# Altium footprint library Connector_Audio.PcbLib: 212 footprints (part 4 of 14)
Each footprint in its own frame and in the unit in brackets; x right, y up, seen from the top. Pads: shape width x height; smd on the part's side, far side on the other; paste and mask are expansions set on the pad; w line width, h text height; cw(c..) or ccw(c..) is an arc to the next point about the centre after c.
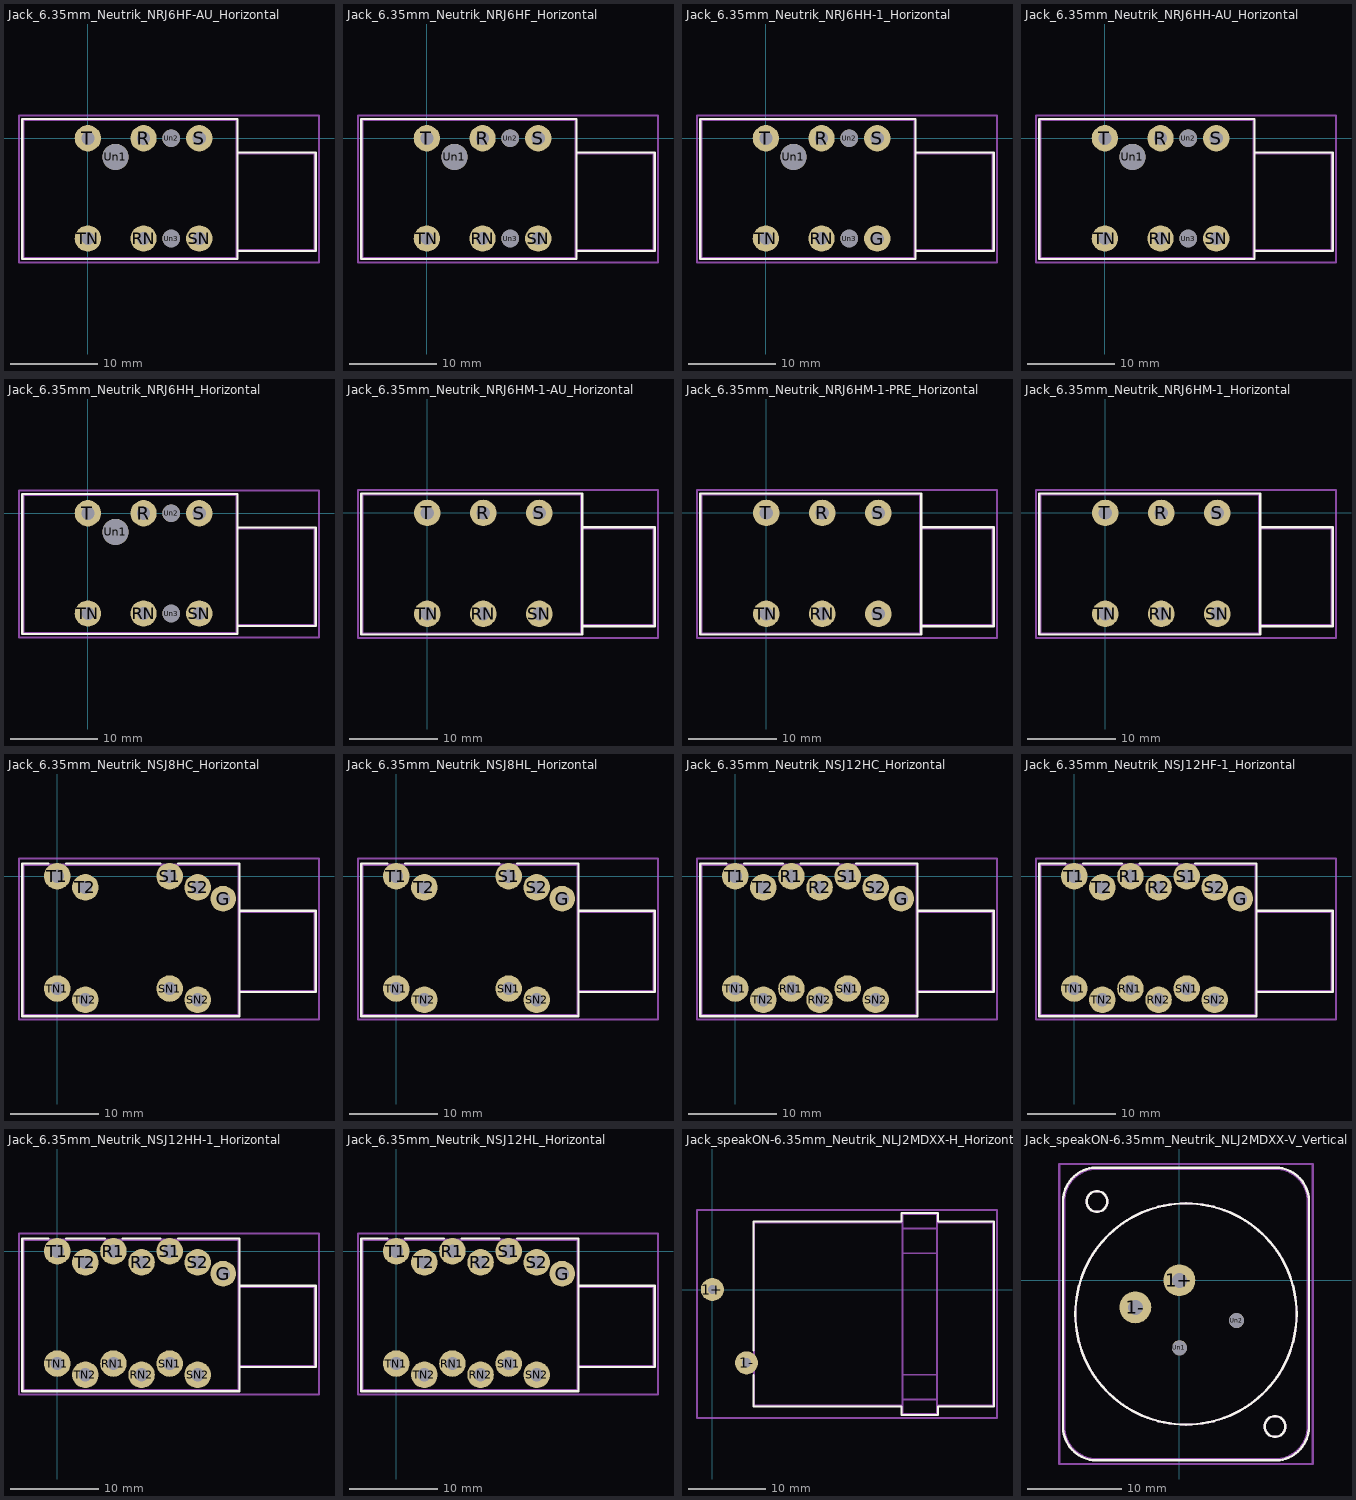
[diagram p3: the footprints below, top view; thin cyan lines are the x and y axes]

## Jack_6.35mm_Neutrik_NRJ6HF-AU_Horizontal [mm]
pads (9):
  round 3 hole 1.5: R(6.35,0) RN(6.35,-11.43) S(12.7,0) SN(12.7,-11.43) T(0,0) TN(0,-11.43)
  round 3 hole 3: Un1(3.15,-2.13)
  round 2 hole 2: Un2(9.5,0) Un3(9.5,-11.43)
F.SilkS:
  lines w0.254: 17.07,-12.85 25.97,-12.85 25.97,-1.61 17.07,-1.61 ; -7.47,-13.78 17.07,-13.78 17.07,2.21 -7.47,2.21 -7.47,-13.78
Top Assembly:
  lines w0.254: 16.95,-12.73 25.85,-12.73 25.85,-1.73 16.95,-1.73 ; -7.35,-13.66 16.95,-13.66 16.95,2.09 -7.35,2.09 -7.35,-13.66
  text "'.Designator'" at 2.303,-6.555 h1
Top Courtyard:
  lines w0.254: -7.85,-14.16 26.35,-14.16 26.35,2.59 -7.85,2.59 -7.85,-14.16
Top Designator:
  text ".Designator" at 1.632,-6.293 h1.52
Dwgs.User:
  lines w0.254: 16.95,-13.66 16.95,2.09

## Jack_6.35mm_Neutrik_NRJ6HF_Horizontal [mm]
pads (9):
  round 3 hole 1.5: R(6.35,0) RN(6.35,-11.43) S(12.7,0) SN(12.7,-11.43) T(0,0) TN(0,-11.43)
  round 3 hole 3: Un1(3.15,-2.13)
  round 2 hole 2: Un2(9.5,0) Un3(9.5,-11.43)
F.SilkS:
  lines w0.254: 17.07,-12.85 25.97,-12.85 25.97,-1.61 17.07,-1.61 ; -7.47,-13.78 17.07,-13.78 17.07,2.21 -7.47,2.21 -7.47,-13.78
Top Assembly:
  lines w0.254: 16.95,-12.73 25.85,-12.73 25.85,-1.73 16.95,-1.73 ; -7.35,-13.66 16.95,-13.66 16.95,2.09 -7.35,2.09 -7.35,-13.66
  text "'.Designator'" at 2.303,-6.555 h1
Top Courtyard:
  lines w0.254: -7.85,-14.16 26.35,-14.16 26.35,2.59 -7.85,2.59 -7.85,-14.16
Top Designator:
  text ".Designator" at 1.632,-6.293 h1.52
Dwgs.User:
  lines w0.254: 16.95,-13.66 16.95,2.09

## Jack_6.35mm_Neutrik_NRJ6HH-1_Horizontal [mm]
pads (9):
  round 3 hole 1.5: G(12.7,-11.43) R(6.35,0) RN(6.35,-11.43) S(12.7,0) T(0,0) TN(0,-11.43)
  round 3 hole 3: Un1(3.15,-2.13)
  round 2 hole 2: Un2(9.5,0) Un3(9.5,-11.43)
F.SilkS:
  lines w0.254: 17.07,-12.85 25.97,-12.85 25.97,-1.61 17.07,-1.61 ; -7.47,-13.78 17.07,-13.78 17.07,2.21 -7.47,2.21 -7.47,-13.78
Top Assembly:
  lines w0.254: 16.95,-12.73 25.85,-12.73 25.85,-1.73 16.95,-1.73 ; -7.35,-13.66 16.95,-13.66 16.95,2.09 -7.35,2.09 -7.35,-13.66
  text "'.Designator'" at 2.303,-6.555 h1
Top Courtyard:
  lines w0.254: -7.85,-14.16 26.35,-14.16 26.35,2.59 -7.85,2.59 -7.85,-14.16
Top Designator:
  text ".Designator" at 1.632,-6.293 h1.52
Dwgs.User:
  lines w0.254: 16.95,-13.66 16.95,2.09

## Jack_6.35mm_Neutrik_NRJ6HH-AU_Horizontal [mm]
pads (9):
  round 3 hole 1.5: R(6.35,0) RN(6.35,-11.43) S(12.7,0) SN(12.7,-11.43) T(0,0) TN(0,-11.43)
  round 3 hole 3: Un1(3.15,-2.13)
  round 2 hole 2: Un2(9.5,0) Un3(9.5,-11.43)
F.SilkS:
  lines w0.254: 17.07,-12.85 25.97,-12.85 25.97,-1.61 17.07,-1.61 ; -7.47,-13.78 17.07,-13.78 17.07,2.21 -7.47,2.21 -7.47,-13.78
Top Assembly:
  lines w0.254: 16.95,-12.73 25.85,-12.73 25.85,-1.73 16.95,-1.73 ; -7.35,-13.66 16.95,-13.66 16.95,2.09 -7.35,2.09 -7.35,-13.66
  text "'.Designator'" at 2.303,-6.555 h1
Top Courtyard:
  lines w0.254: -7.85,-14.16 26.35,-14.16 26.35,2.59 -7.85,2.59 -7.85,-14.16
Top Designator:
  text ".Designator" at 1.632,-6.293 h1.52
Dwgs.User:
  lines w0.254: 16.95,-13.66 16.95,2.09

## Jack_6.35mm_Neutrik_NRJ6HH_Horizontal [mm]
pads (9):
  round 3 hole 1.5: R(6.35,0) RN(6.35,-11.43) S(12.7,0) SN(12.7,-11.43) T(0,0) TN(0,-11.43)
  round 3 hole 3: Un1(3.15,-2.13)
  round 2 hole 2: Un2(9.5,0) Un3(9.5,-11.43)
F.SilkS:
  lines w0.254: 17.07,-12.85 25.97,-12.85 25.97,-1.61 17.07,-1.61 ; -7.47,-13.78 17.07,-13.78 17.07,2.21 -7.47,2.21 -7.47,-13.78
Top Assembly:
  lines w0.254: 16.95,-12.73 25.85,-12.73 25.85,-1.73 16.95,-1.73 ; -7.35,-13.66 16.95,-13.66 16.95,2.09 -7.35,2.09 -7.35,-13.66
  text "'.Designator'" at 2.303,-6.555 h1
Top Courtyard:
  lines w0.254: -7.85,-14.16 26.35,-14.16 26.35,2.59 -7.85,2.59 -7.85,-14.16
Top Designator:
  text ".Designator" at 1.632,-6.293 h1.52
Dwgs.User:
  lines w0.254: 16.95,-13.66 16.95,2.09

## Jack_6.35mm_Neutrik_NRJ6HM-1-AU_Horizontal [mm]
pads (6):
  round 3 hole 1.5: R(6.35,0) RN(6.35,-11.43) S(12.7,0) SN(12.7,-11.43) T(0,0) TN(0,-11.43)
F.SilkS:
  lines w0.254: 17.57,-12.85 25.77,-12.85 25.77,-1.61 17.57,-1.61 ; -7.47,-13.78 17.57,-13.78 17.57,2.21 -7.47,2.21 -7.47,-13.78
Top Assembly:
  lines w0.254: 17.45,-12.73 25.65,-12.73 25.65,-1.73 17.45,-1.73 ; -7.35,-13.66 17.45,-13.66 17.45,2.09 -7.35,2.09 -7.35,-13.66
  text "'.Designator'" at 2.303,-6.555 h1
Top Courtyard:
  lines w0.254: -7.85,-14.16 26.15,-14.16 26.15,2.59 -7.85,2.59 -7.85,-14.16
Top Designator:
  text ".Designator" at 1.532,-6.293 h1.52
Dwgs.User:
  lines w0.254: 17.45,-13.66 17.45,2.09

## Jack_6.35mm_Neutrik_NRJ6HM-1-PRE_Horizontal [mm]
pads (6):
  round 3 hole 1.5: R(6.35,0) RN(6.35,-11.43) S(12.7,-11.43) S(12.7,0) T(0,0) TN(0,-11.43)
F.SilkS:
  lines w0.254: 17.57,-12.85 25.77,-12.85 25.77,-1.61 17.57,-1.61 ; -7.47,-13.78 17.57,-13.78 17.57,2.21 -7.47,2.21 -7.47,-13.78
Top Assembly:
  lines w0.254: 17.45,-12.73 25.65,-12.73 25.65,-1.73 17.45,-1.73 ; -7.35,-13.66 17.45,-13.66 17.45,2.09 -7.35,2.09 -7.35,-13.66
  text "'.Designator'" at 2.303,-6.555 h1
Top Courtyard:
  lines w0.254: -7.85,-14.16 26.15,-14.16 26.15,2.59 -7.85,2.59 -7.85,-14.16
Top Designator:
  text ".Designator" at 1.532,-6.293 h1.52
Dwgs.User:
  lines w0.254: 17.45,-13.66 17.45,2.09

## Jack_6.35mm_Neutrik_NRJ6HM-1_Horizontal [mm]
pads (6):
  round 3 hole 1.5: R(6.35,0) RN(6.35,-11.43) S(12.7,0) SN(12.7,-11.43) T(0,0) TN(0,-11.43)
F.SilkS:
  lines w0.254: 17.57,-12.85 25.77,-12.85 25.77,-1.61 17.57,-1.61 ; -7.47,-13.78 17.57,-13.78 17.57,2.21 -7.47,2.21 -7.47,-13.78
Top Assembly:
  lines w0.254: 17.45,-12.73 25.65,-12.73 25.65,-1.73 17.45,-1.73 ; -7.35,-13.66 17.45,-13.66 17.45,2.09 -7.35,2.09 -7.35,-13.66
  text "'.Designator'" at 2.303,-6.555 h1
Top Courtyard:
  lines w0.254: -7.85,-14.16 26.15,-14.16 26.15,2.59 -7.85,2.59 -7.85,-14.16
Top Designator:
  text ".Designator" at 1.532,-6.293 h1.52
Dwgs.User:
  lines w0.254: 17.45,-13.66 17.45,2.09

## Jack_6.35mm_Neutrik_NSJ8HC_Horizontal [mm]
pads (9):
  round 2.9 hole 1.5: G(18.75,-2.54)
  round 3 hole 1.5: S1(12.7,0) S2(15.87,-1.27) SN1(12.7,-12.7) SN2(15.87,-13.97) T1(0,0) T2(3.18,-1.27) TN1(0,-12.7) TN2(3.18,-13.97)
F.SilkS:
  lines w0.254: -1.02,1.42 -3.94,1.42 -3.94,-15.82 20.6,-15.82 20.6,1.42 13.68,1.42 ; 0.98,1.42 11.68,1.42 ; 20.6,-13.095 29.2,-13.095 29.2,-3.905 20.6,-3.905
Top Assembly:
  lines w0.254: 20.48,-12.975 29.08,-12.975 29.08,-4.025 20.48,-4.025 ; -3.82,-15.7 20.48,-15.7 20.48,1.3 -3.82,1.3 -3.82,-15.7
  text "'.Designator'" at 5.483,-7.84 h1
Top Courtyard:
  lines w0.254: -4.32,-16.2 29.58,-16.2 29.58,2 -4.32,2 -4.32,-16.2
Top Designator:
  text ".Designator" at 5.012,-7.608 h1.52
Dwgs.User:
  lines w0.254: 20.48,-15.7 20.48,1.3

## Jack_6.35mm_Neutrik_NSJ8HL_Horizontal [mm]
pads (9):
  round 2.9 hole 1.5: G(18.75,-2.54)
  round 3 hole 1.5: S1(12.7,0) S2(15.87,-1.27) SN1(12.7,-12.7) SN2(15.87,-13.97) T1(0,0) T2(3.18,-1.27) TN1(0,-12.7) TN2(3.18,-13.97)
F.SilkS:
  lines w0.254: -1.02,1.42 -3.94,1.42 -3.94,-15.82 20.6,-15.82 20.6,1.42 13.68,1.42 ; 0.98,1.42 11.68,1.42 ; 20.6,-13.095 29.2,-13.095 29.2,-3.905 20.6,-3.905
Top Assembly:
  lines w0.254: 20.48,-12.975 29.08,-12.975 29.08,-4.025 20.48,-4.025 ; -3.82,-15.7 20.48,-15.7 20.48,1.3 -3.82,1.3 -3.82,-15.7
  text "'.Designator'" at 5.483,-7.84 h1
Top Courtyard:
  lines w0.254: -4.32,-16.2 29.58,-16.2 29.58,2 -4.32,2 -4.32,-16.2
Top Designator:
  text ".Designator" at 5.012,-7.608 h1.52
Dwgs.User:
  lines w0.254: 20.48,-15.7 20.48,1.3

## Jack_6.35mm_Neutrik_NSJ12HC_Horizontal [mm]
pads (13):
  round 2.9 hole 1.5: G(18.75,-2.54)
  round 3 hole 1.5: R1(6.35,0) R2(9.53,-1.27) RN1(6.35,-12.7) RN2(9.53,-13.97) S1(12.7,0) S2(15.87,-1.27) SN1(12.7,-12.7) SN2(15.87,-13.97) T1(0,0) T2(3.18,-1.27) TN1(0,-12.7) TN2(3.18,-13.97)
F.SilkS:
  lines w0.254: -1.02,1.42 -3.94,1.42 -3.94,-15.82 20.6,-15.82 20.6,1.42 13.68,1.42 ; 0.98,1.42 5.38,1.42 ; 7.38,1.42 11.68,1.42 ; 20.6,-13.095 29.2,-13.095 29.2,-3.905 20.6,-3.905
Top Assembly:
  lines w0.254: 20.48,-12.975 29.08,-12.975 29.08,-4.025 20.48,-4.025 ; -3.82,-15.7 20.48,-15.7 20.48,1.3 -3.82,1.3 -3.82,-15.7
  text "'.Designator'" at 5.483,-7.84 h1
Top Courtyard:
  lines w0.254: -4.32,-16.2 29.58,-16.2 29.58,2 -4.32,2 -4.32,-16.2
Top Designator:
  text ".Designator" at 5.012,-7.608 h1.52
Dwgs.User:
  lines w0.254: 20.48,-15.7 20.48,1.3

## Jack_6.35mm_Neutrik_NSJ12HF-1_Horizontal [mm]
pads (13):
  round 2.9 hole 1.5: G(18.75,-2.54)
  round 3 hole 1.5: R1(6.35,0) R2(9.53,-1.27) RN1(6.35,-12.7) RN2(9.53,-13.97) S1(12.7,0) S2(15.87,-1.27) SN1(12.7,-12.7) SN2(15.87,-13.97) T1(0,0) T2(3.18,-1.27) TN1(0,-12.7) TN2(3.18,-13.97)
F.SilkS:
  lines w0.254: -1.02,1.42 -3.94,1.42 -3.94,-15.82 20.6,-15.82 20.6,1.42 13.68,1.42 ; 0.98,1.42 5.38,1.42 ; 7.38,1.42 11.68,1.42 ; 20.6,-13.095 29.2,-13.095 29.2,-3.905 20.6,-3.905
Top Assembly:
  lines w0.254: 20.48,-12.975 29.08,-12.975 29.08,-4.025 20.48,-4.025 ; -3.82,-15.7 20.48,-15.7 20.48,1.3 -3.82,1.3 -3.82,-15.7
  text "'.Designator'" at 5.483,-7.84 h1
Top Courtyard:
  lines w0.254: -4.32,-16.2 29.58,-16.2 29.58,2 -4.32,2 -4.32,-16.2
Top Designator:
  text ".Designator" at 5.012,-7.608 h1.52
Dwgs.User:
  lines w0.254: 20.48,-15.7 20.48,1.3

## Jack_6.35mm_Neutrik_NSJ12HH-1_Horizontal [mm]
pads (13):
  round 2.9 hole 1.5: G(18.75,-2.54)
  round 3 hole 1.5: R1(6.35,0) R2(9.53,-1.27) RN1(6.35,-12.7) RN2(9.53,-13.97) S1(12.7,0) S2(15.87,-1.27) SN1(12.7,-12.7) SN2(15.87,-13.97) T1(0,0) T2(3.18,-1.27) TN1(0,-12.7) TN2(3.18,-13.97)
F.SilkS:
  lines w0.254: -1.02,1.42 -3.94,1.42 -3.94,-15.82 20.6,-15.82 20.6,1.42 13.68,1.42 ; 0.98,1.42 5.38,1.42 ; 7.38,1.42 11.68,1.42 ; 20.6,-13.095 29.2,-13.095 29.2,-3.905 20.6,-3.905
Top Assembly:
  lines w0.254: 20.48,-12.975 29.08,-12.975 29.08,-4.025 20.48,-4.025 ; -3.82,-15.7 20.48,-15.7 20.48,1.3 -3.82,1.3 -3.82,-15.7
  text "'.Designator'" at 5.483,-7.84 h1
Top Courtyard:
  lines w0.254: -4.32,-16.2 29.58,-16.2 29.58,2 -4.32,2 -4.32,-16.2
Top Designator:
  text ".Designator" at 5.012,-7.608 h1.52
Dwgs.User:
  lines w0.254: 20.48,-15.7 20.48,1.3

## Jack_6.35mm_Neutrik_NSJ12HL_Horizontal [mm]
pads (13):
  round 2.9 hole 1.5: G(18.75,-2.54)
  round 3 hole 1.5: R1(6.35,0) R2(9.53,-1.27) RN1(6.35,-12.7) RN2(9.53,-13.97) S1(12.7,0) S2(15.87,-1.27) SN1(12.7,-12.7) SN2(15.87,-13.97) T1(0,0) T2(3.18,-1.27) TN1(0,-12.7) TN2(3.18,-13.97)
F.SilkS:
  lines w0.254: -1.02,1.42 -3.94,1.42 -3.94,-15.82 20.6,-15.82 20.6,1.42 13.68,1.42 ; 0.98,1.42 5.38,1.42 ; 7.38,1.42 11.68,1.42 ; 20.6,-13.095 29.2,-13.095 29.2,-3.905 20.6,-3.905
Top Assembly:
  lines w0.254: 20.48,-12.975 29.08,-12.975 29.08,-4.025 20.48,-4.025 ; -3.82,-15.7 20.48,-15.7 20.48,1.3 -3.82,1.3 -3.82,-15.7
  text "'.Designator'" at 5.483,-7.84 h1
Top Courtyard:
  lines w0.254: -4.32,-16.2 29.58,-16.2 29.58,2 -4.32,2 -4.32,-16.2
Top Designator:
  text ".Designator" at 5.012,-7.608 h1.52
Dwgs.User:
  lines w0.254: 20.48,-15.7 20.48,1.3

## Jack_speakON-6.35mm_Neutrik_NLJ2MDXX-H_Horizontal [mm]
pads (2):
  round 3 hole 1.2: 1+(0,0) 1-(4.44,-9.53)
F.SilkS:
  lines w0.254: 5.32,-11.13 5.32,-15.2 24.6,-15.2 ; 5.32,-7.93 5.32,8.84 24.59,8.84 24.59,9.94 29.33,9.94 29.33,8.84 36.63,8.84 36.63,-15.2 29.33,-15.2 29.33,-16.3 24.59,-16.3 24.59,-15.2
Top Assembly:
  lines w0.254: 24.71,-15.08 5.44,-15.08 5.44,8.72 24.71,8.72 ; 24.71,-14.28 29.21,-14.28 ; 24.71,-11.08 29.21,-11.08 ; 24.71,4.72 29.21,4.72 ; 24.71,7.92 29.21,7.92 ; 29.21,-15.08 36.51,-15.08 36.51,8.72 29.21,8.72 ; 24.71,-16.18 29.21,-16.18 29.21,9.82 24.71,9.82 24.71,-16.18
  text "'.Designator'" at 13.453,-5.605 h1
Top Courtyard:
  lines w0.254: -2,-16.68 37.01,-16.68 37.01,10.32 -2,10.32 -2,-16.68
Top Designator:
  text ".Designator" at 9.887,-3.688 h1.52
Dwgs.User:
  lines w0.254: 29.21,-16.18 29.21,9.82

## Jack_speakON-6.35mm_Neutrik_NLJ2MDXX-V_Vertical [mm]
pads (4):
  round 3.4 hole 1.6: 1+(0,0) 1-(-4.7,-2.9)
  round 1.6 hole 1.6: Un1(0,-7.2) Un2(6.1,-4.3)
F.SilkS:
  circle w0.254: c10.2,-15.6 r1.1
  circle w0.254: c0.7,-3.6 r11.8
  circle w0.254: c-8.8,8.4 r1.1
  lines w0.254: -12.42,-15.72 -12.42,8.52 cw(c-8.8,8.4) -8.68,12.02 ; -12.42,-15.48 ccw(c-8.8,-15.6) -8.92,-19.22 10.32,-19.22 ; -8.92,12.02 10.32,12.02 cw(c10.2,8.4) 13.82,8.28 ; 10.08,-19.22 ccw(c10.2,-15.6) 13.82,-15.72 13.82,8.52
Top Assembly:
  circle w0.254: c10.2,-15.6 r1.1
  circle w0.254: c0.7,-3.6 r11.8
  circle w0.254: c-8.8,8.4 r1.1
  lines w0.254: -12.3,-15.6 ccw(c-8.8,-15.6) -8.8,-19.1 10.2,-19.1 ccw(c10.2,-15.6) 13.7,-15.6 13.7,8.4 ccw(c10.2,8.4) 10.2,11.9 -8.8,11.9 ccw(c-8.8,8.4) -12.3,8.4 -12.3,-15.6
  text "'.Designator'" at -3.347,-4.44 h1
Top Courtyard:
  lines w0.254: -12.8,-19.6 14.2,-19.6 14.2,12.4 -12.8,12.4 -12.8,-19.6
Top Designator:
  text ".Designator" at -6.918,-4.108 h1.52